# EAGLE library part MAX3232EIDB (library lib_stankus)
TI MAX3232EIDB RS232 transceiver Farnell #1494918
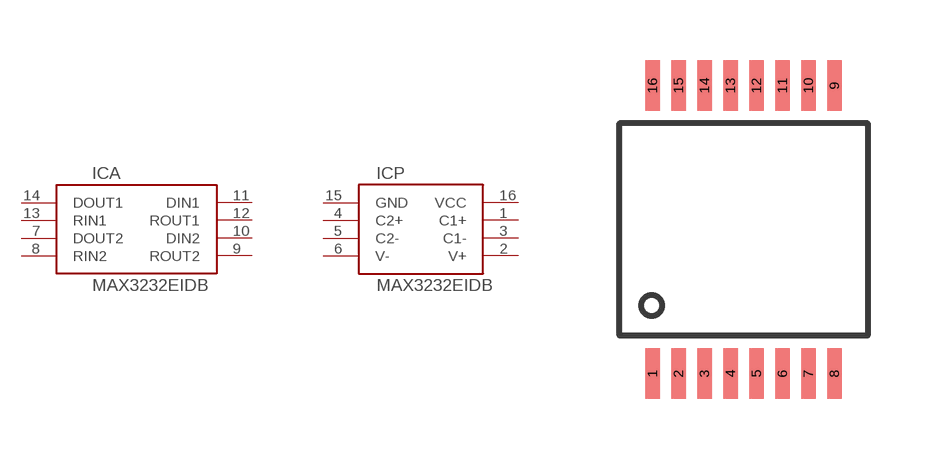
[diagram p11: symbol with the pads of SSOP16; footprint SSOP16]

Designator prefix IC; gates A=MAX3232EIDB_IO P=MAX3232EIDB_PWR

## MAX3232EIDB-SSOP16  [SSOP16]
1  P:C1+  pas
2  P:V+  pas
3  P:C1-  pas
4  P:C2+  pas
5  P:C2-  pas
6  P:V-  pas
7  A:DOUT2  pas
8  A:RIN2  pas
9  A:ROUT2  pas
10  A:DIN2  pas
11  A:DIN1  pas
12  A:ROUT1  pas
13  A:RIN1  pas
14  A:DOUT1  pas
15  P:GND  pas
16  P:VCC  pas

## Footprint SSOP16 (pad centres in mm)
SSOP16
smd 0.356 x 1.27: 1 -2.275,-3.6; 2 -1.625,-3.6; 3 -0.975,-3.6; 4 -0.325,-3.6; 5 0.325,-3.6; 6 0.975,-3.6; 7 1.625,-3.6; 8 2.275,-3.6; 9 2.275,3.6; 10 1.625,3.6; 11 0.975,3.6; 12 0.325,3.6; 13 -0.325,3.6; 14 -0.975,3.6; 15 -1.625,3.6; 16 -2.275,3.6